# EAGLE library part VCO-V2 (library XM8)
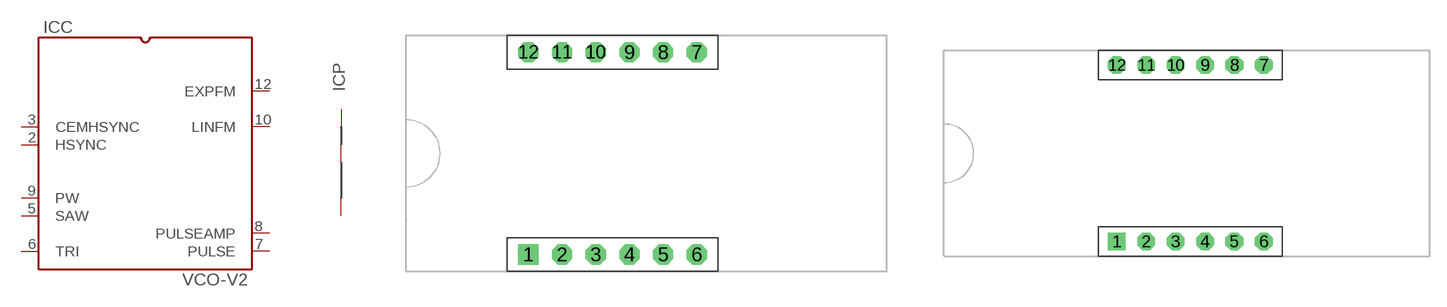
[diagram p36: symbol with the pads of XM8-CEM3340-V2.0; footprints XM8-CEM3340-V2.0, XM8-CEM3340-V2.2]

Designator prefix IC; gates C=XM8-CEM3340-V2.0 P=XM8-PWR

## VCO-V2.0  [XM8-CEM3340-V2.0]
1  P:-V  pwr
2  C:HSYNC
3  C:CEMHSYNC
4  P:AGND  pwr
5  C:SAW
6  C:TRI
7  C:PULSE
8  C:PULSEAMP
9  C:PW
10  C:LINFM
11  P:+V  pwr
12  C:EXPFM

## VCO-V2.2  [XM8-CEM3340-V2.2]
Pads as for XM8-CEM3340-V2.0

## Footprint XM8-CEM3340-V2.0 (pad centres in mm)
Xonik VCO v2.0
drill 1.016 square: 1 -6.35,-7.62
drill 1.016 octagon: 2 -3.81,-7.62; 3 -1.27,-7.62; 4 1.27,-7.62; 5 3.81,-7.62; 6 6.35,-7.62; 7 6.35,7.62; 8 3.81,7.62; 9 1.27,7.62; 10 -1.27,7.62; 11 -3.81,7.62; 12 -6.35,7.62

## Footprint XM8-CEM3340-V2.2 (pad centres in mm)
Xonik VCO v2.0
drill 1.016 square: 1 -6.35,-7.62
drill 1.016 octagon: 2 -3.81,-7.62; 3 -1.27,-7.62; 4 1.27,-7.62; 5 3.81,-7.62; 6 6.35,-7.62; 7 6.35,7.62; 8 3.81,7.62; 9 1.27,7.62; 10 -1.27,7.62; 11 -3.81,7.62; 12 -6.35,7.62